# Altium schematic symbol library 51shiyanban.SCHLIB: 30 symbols
Pins are listed as number, name and electrical type; pins without a type are passive.

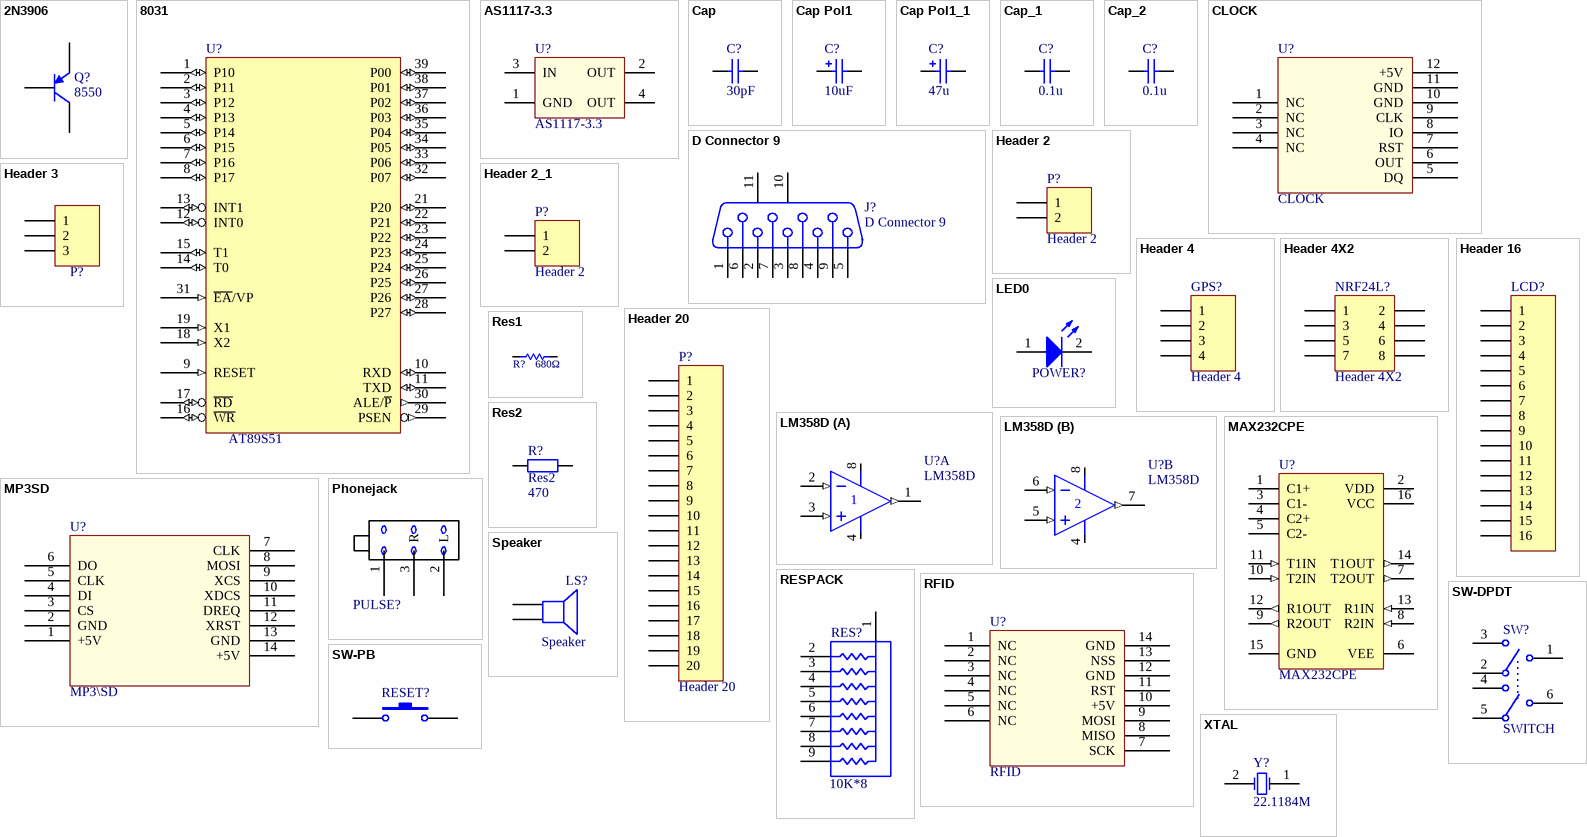
[diagram p0: symbols 2N3906 to XTAL]

## 2N3906
designator Q?, comment 8550
PNP General Purpose Amplifier; Published: 8-Jun-2000; LatestRevisionDate: 15-Jan-2003; LatestRevisionNote: PCB Footprint 'BCY-W3/D4.7' replaced; DatasheetDocument: 1997; PackageDocument: Sep-1998; PackageReference: TO-92A; Publisher: Altium Limited; Code_JEDEC: TO-92A; ComponentLink1Description: Manufacturer Link; ComponentLink1URL: http://www.fairchildsemi.com/; ComponentLink2Description: Datasheet; ComponentLink2URL: http://www.fairchildsemi.com/ds/2N%2F2N3906.pdf
footprint Transistor
simulation model 2N3906 (PNP)
signal-integrity model 2N3906
pins: 1 E, 2 B, 3 C

## 8031
designator U?, comment AT89S51
footprint KDIP40_HT
pins: 1 P10 (io), 2 P11 (io), 3 P12 (io), 4 P13 (io), 5 P14 (io), 6 P15 (io), 7 P16 (io), 8 P17 (io), 9 RESET (in), 10 RXD (io), 11 TXD (io), 12 INT0 (io), 13 INT1 (io), 14 T0 (io), 15 T1 (io), 16 ~{WR} (io), 17 ~{RD} (io), 18 X2 (in), 19 X1 (in), 20 GND (power) hidden to GND, 21 P20 (io), 22 P21 (io), 23 P22 (io), 24 P23 (io), 25 P24 (io), 26 P25 (io), 27 P26 (io), 28 P27 (io), 29 PSEN (out), 30 ALE/~{P} (out), 31 ~{EA}/VP (in), 32 P07 (io), 33 P06 (io), 34 P05 (io), 35 P04 (io), 36 P03 (io), 37 P02 (io), 38 P01 (io), 39 P00 (io), 40 VCC (power) hidden to VCC

## AS1117-3.3
designator U?
footprint SOT-223
pins: 1 GND, 2 OUT, 3 IN, 4 OUT

## Cap
designator C?, comment value 30pF  (hidden comment: 30P)
Capacitor; Manufacturer: Generic Components; Class: Passive; Published: 08/06/2000; Publisher: Altium Hobart Technology Centre; SubClass: Capacitor
footprint CAP1_HT
simulation model CAP (Capacitor)
signal-integrity model Cap
pins: 1, 2

## Cap Pol1
designator C?  value 10uF  (hidden comment: Cap Pol1)
Polarized Capacitor (Radial); Manufacturer: Generic Components; Class: Passive; Published: 08/06/2000; Publisher: Altium Hobart Technology Centre; SubClass: Capacitor
footprint CAP3_HT
simulation model CAP (Capacitor)
signal-integrity model Cap Pol
pins: 1, 2

## Cap Pol1_1
designator C?  value 47u
Polarized Capacitor (Radial); Manufacturer: Generic Components; Class: Passive; Published: 08/06/2000; Publisher: Altium Hobart Technology Centre; SubClass: Capacitor
footprint CAP_CA_D
simulation model CAP (Capacitor)
pins: 1, 2

## Cap_1
designator C?, comment 0.1u
Capacitor; Manufacturer: Generic Components; Class: Passive; Published: 08/06/2000; Publisher: Altium Hobart Technology Centre; SubClass: Capacitor; Value: 0.1u
footprint C0805
simulation model CAP (Capacitor)
signal-integrity model Cap
pins: 1, 2

## Cap_2
designator C?, comment 0.1u
Capacitor; Manufacturer: Generic Components; Class: Passive; Published: 08/06/2000; Publisher: Altium Hobart Technology Centre; SubClass: Capacitor; Value: 0.1u
footprint CAP1_HT
simulation model CAP (Capacitor)
signal-integrity model Cap
pins: 1, 2

## CLOCK
designator U?
footprint CLOCK
pins: 1 NC, 2 NC, 3 NC, 4 NC, 5 DQ, 6 OUT, 7 RST, 8 IO, 9 CLK, 10 GND, 11 GND, 12 +5V

## D Connector 9
designator J?
Receptacle Assembly, 9 Position, Right Angle; PackageDocument: O; Positions: 9; Published: 15-Jun-2001; LatestRevisionDate: 17-Jul-2002; LatestRevisionNote: Re-released for DXP Platform.; DatasheetDocument: 1-Sep-1999; PackageReference: 788750; Publisher: Altium Limited; Orientation: Right Angle; Gender: Receptacle
footprint DSUB1.385-2H9 (Connector; D Subminiature; 9 Position; Right Angle; Pitch 1.385 mm)
signal-integrity model Connector
pins: 1, 2, 3, 4, 5, 6, 7, 8, 9, 10 MH1, 11 MH2

## Header 2
designator P?
Header, 2-Pin; Manufacturer: Generic Components; Class: Connector
footprint DCJACK
signal-integrity model Connector
pins: 1, 2

## Header 2_1
designator P?, comment Header 2
Header, 2-Pin; Manufacturer: Generic Components; Class: Connector
footprint Power_small
signal-integrity model Connector
pins: 1, 2

## Header 3
designator P?  (value not drawn)
Header, 3-Pin; LatestRevisionDate: 17-Jul-2002; LatestRevisionNote: Re-released for DXP Platform.; Publisher: Altium Limited
footprint HDR1X3 (Connector; Header; 3 Position)
signal-integrity model Connector
pins: 1, 2, 3

## Header 4
designator GPS?
Header, 4-Pin; LatestRevisionDate: 17-Jul-2002; LatestRevisionNote: Re-released for DXP Platform.; Publisher: Altium Limited
footprint HDR1X4 (Connector; Header; 4 Position)
signal-integrity model Connector
pins: 1, 2, 3, 4

## Header 4X2
designator NRF24L?
Header, 4-Pin, Dual row; LatestRevisionDate: 17-Jul-2002; LatestRevisionNote: Re-released for DXP Platform.; Publisher: Altium Limited
footprint HDR2X4 (Connector; Header; 4x2 Position)
signal-integrity model Connector
pins: 1, 2, 3, 4, 5, 6, 7, 8

## Header 16
designator LCD?  (value not drawn)
Header, 16-Pin; Revision: 17-Jul-2002: Re-released for DXP Platform.; Publisher: Altium Limited
footprint HDR1X16 (Connector; Header; 16 Position)
signal-integrity model Connector
pins: 1, 2, 3, 4, 5, 6, 7, 8, 9, 10, 11, 12, 13, 14, 15, 16

## Header 20
designator P?
Header, 20-Pin; LatestRevisionDate: 17-Jul-2002; LatestRevisionNote: Re-released for DXP Platform.; Publisher: Altium Limited
footprint HDR1X20 (Connector; Header; 20 Position)
signal-integrity model Connector
pins: 1, 2, 3, 4, 5, 6, 7, 8, 9, 10, 11, 12, 13, 14, 15, 16, 17, 18, 19, 20

## LED0
designator POWER?  (value not drawn)
Typical INFRARED GaAs LED; Manufacturer: Generic Components; Class: Optoelectronic; Published: 08/06/2000; Publisher: Altium Hobart Technology Centre; SubClass: LED
footprint LED1_HT
simulation model LED0 (Diode)
pins: 1 A, 2 K

## LM358D
designator U?
Dual Low-Power Operational Amplifier; Published: 17-Jul-2002; LatestRevisionDate: 13-Apr-2006; LatestRevisionNote: IPC-7351 Footprint Added.; DatasheetVersion: 1988; PackageReference: 751-02; Publisher: Altium Limited; PackageDescription: 8-Pin Small Outline Integrated Circuit 1.27 mm Pitch; Code_JEDEC: MS-012-AA; Code_IPC: SOIC127P600-8; ComponentLink1Description: Manufacturer Link; ComponentLink1URL: http://www.onsemi.com/site/products/parametrics/0,4446,251,00.html; ComponentLink2Description: Datasheet; ComponentLink2URL: http://www.onsemi.com/pub/Collateral/LM358-D.PDF
footprint 751-02_N (SOIC, 8-Leads, Body 4.9x3.9mm, Pitch 1.27mm, IPC Medium Density)
footprint 751-02_L (SOIC, 8-Leads, Body 4.9x3.9mm, Pitch 1.27mm, IPC High Density)
footprint 751-02_M (SOIC, 8-Leads, Body 4.9x3.9mm, Pitch 1.27mm, IPC Low Density)
3D model 751-02 (8-Pin Small Outline Integrated Circuit 1.27 mm Pitch)
pins on every part: 4 V- (power), 8 V+ (power)
part A pins: 1 OUT (out), 2 IN- (in), 3 IN+ (in)
part B pins: 5 IN+ (in), 6 IN- (in), 7 OUT (out)

## MAX232CPE
designator U?
+5V Powered RS-232 Driver/Receiver; Published: 16-Jan-2001; LatestRevisionDate: 06-Jun-2005; LatestRevisionNote: Stylized 3D Model Added.; DatasheetVersion: Apr-1992; PackageVersion: 1997; PackageReference: PE16A; Publisher: Altium Limited; PackageDescription: DIP; 16 Leads; Row Spacing 7.62 mm; Pitch 2.54 mm; Code_JEDEC: MS-001-BB; ComponentLink1Description: Manufacturer Link; ComponentLink1URL: http://www.maxim-ic.com/; ComponentLink2Description: Datasheet; ComponentLink2URL: http://pdfserv.maxim-ic.com/en/ds/MAX220-MAX249.pdf
footprint DIP-16
3D model PE16 (DIP; 16 Leads; Row Spacing 7.62 mm; Pitch 2.54 mm)
pins: 1 C1+, 2 VDD (power), 3 C1-, 4 C2+, 5 C2-, 6 VEE (power), 7 T2OUT (out), 8 R2IN (in), 9 R2OUT (out), 10 T2IN (in), 11 T1IN (in), 12 R1OUT (out), 13 R1IN (in), 14 T1OUT (out), 15 GND (power), 16 VCC (power)

## MP3SD
designator U?, comment MP3\SD
footprint MP3SD
pins: 1 +5V, 2 GND, 3 CS, 4 DI, 5 CLK, 6 DO, 7 CLK, 8 MOSI, 9 XCS, 10 XDCS, 11 DREQ, 12 XRST, 13 GND, 14 +5V

## Phonejack
designator PULSE?  (value not drawn)
footprint 3.5mmphonejack
pins: 1 GBUF, 2 L, 3 R

## Res1
designator R?, comment 680Ω
Resistor; Published: 8-Jun-2000; Revision: July-2002: Re-released for DXP Platform.; Publisher: Altium Limited; Value: 680Ω
footprint C0805
simulation model RESISTOR (Resistor)
signal-integrity model Res
pins: 1, 2
1 alternate drawing of the same symbol

## Res2
designator R?  value 470
Resistor; Published: 8-Jun-2000; LatestRevisionDate: 17-Jul-2002; LatestRevisionNote: Re-released for DXP Platform.; PackageReference: AXIAL-0.4; Publisher: Altium Limited
footprint AXIAL-0.4 (Resistor; 2 Leads)
simulation model RESISTOR (Resistor)
signal-integrity model Res
pins: 1, 2

## RESPACK
designator RES?, comment 10K*8
footprint RES3_HT
pins: 1, 2, 3, 4, 5, 6, 7, 8, 9

## RFID
designator U?
footprint RFID
pins: 1 NC, 2 NC, 3 NC, 4 NC, 5 NC, 6 NC, 7 SCK, 8 MISO, 9 MOSI, 10 +5V, 11 RST, 12 GND, 13 NSS, 14 GND

## Speaker
designator LS?
Loudspeaker; Manufacturer: Generic Components; Published: 1999
footprint BUZZER_HT
pins: 1, 2

## SW-DPDT
designator SW?, comment SWITCH
footprint DPDT-6 (Footprint not found)
pins: 1, 2, 3, 4, 5, 6

## SW-PB
designator RESET?
Switch; Manufacturer: Generic Components; Published: 1999
footprint KEY1_HT
pins: 1, 2

## XTAL
designator Y?, comment 22.1184M
Crystal Oscillator; Manufacturer: Generic Components; Published: 08/06/2000; Publisher: Altium Hobart Technology Centre; Class: Oscillator; SubClass: Crystal Oscillator
footprint XTAL1_HT
simulation model XTAL (Spice Subcircuit)
pins: 1 OSC1, 2 OSC2